# Altium footprint library JST-PH-2POS.PcbLib: 1 footprints
Each footprint in its own frame and in the unit in brackets; x right, y up, seen from the top. Pads: shape width x height; smd on the part's side, far side on the other; paste and mask are expansions set on the pad; w line width, h text height; cw(c..) or ccw(c..) is an arc to the next point about the centre after c.
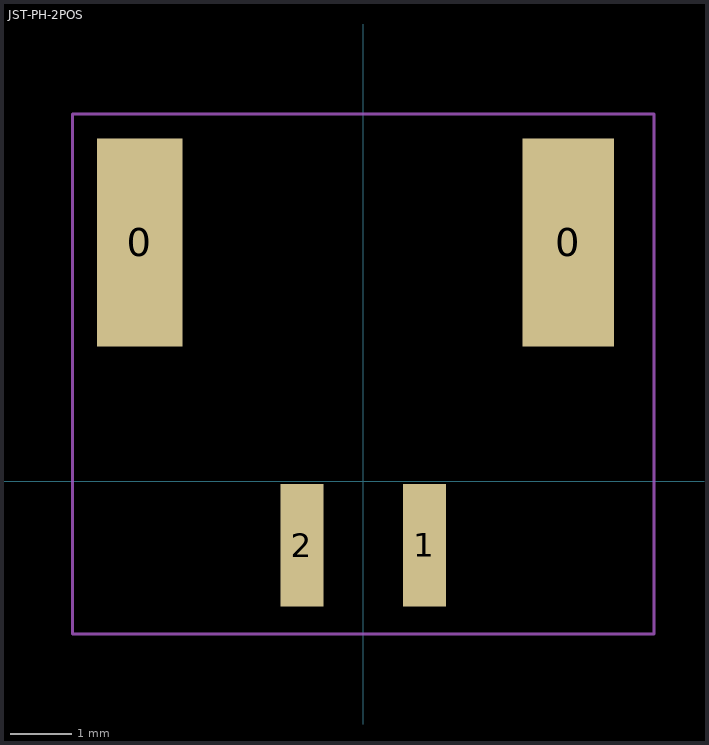
[diagram p0: the footprint, top view; thin cyan lines are the x and y axes]

## JST-PH-2POS [mm] "JST-PH 2POS SM R/A 2.0mm"
pads (4):
  rect 1.4x3.4 smd: 0(-3.65,3.9)
  rect 1.5x3.4 smd: 0(3.35,3.9)
  rect 0.7x2 smd: 1(1,-1.05) 2(-1,-1.05)
Top Courtyard:
  lines w0.05: -4.75,-2.5 -4.75,6 4.75,6 4.75,-2.5 -4.75,-2.5